# Altium footprint library QFN-44_L12.0-W12.0-P0.90-TL_AP6212.PcbLib: 1 footprints
Each footprint in its own frame and in the unit in brackets; x right, y up, seen from the top. Pads: shape width x height; smd on the part's side, far side on the other; paste and mask are expansions set on the pad; w line width, h text height; cw(c..) or ccw(c..) is an arc to the next point about the centre after c.
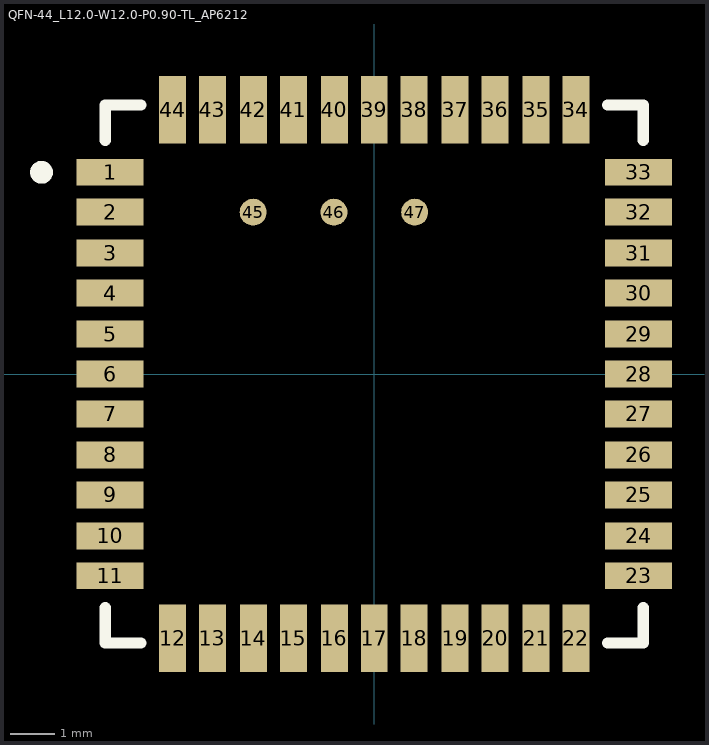
[diagram p0: the footprint, top view; thin cyan lines are the x and y axes]

## QFN-44_L12.0-W12.0-P0.90-TL_AP6212 [mm]
pads (47):
  rect 1.5x0.6 smd: 1(-5.89,4.496) 2(-5.89,3.607) 3(-5.89,2.692) 4(-5.89,1.803) 5(-5.89,0.889) 6(-5.89,0) 7(-5.89,-0.889) 8(-5.89,-1.803) 9(-5.89,-2.692) 10(-5.89,-3.607) 11(-5.89,-4.496) 23(5.89,-4.496) 24(5.89,-3.607) 25(5.89,-2.692) 26(5.89,-1.803) 27(5.89,-0.889) 28(5.89,0) 29(5.89,0.889) 30(5.89,1.803) 31(5.89,2.692) 32(5.89,3.607) 33(5.89,4.496)
  rect 0.6x1.5 smd: 12(-4.496,-5.89) 13(-3.607,-5.89) 14(-2.692,-5.89) 15(-1.803,-5.89) 16(-0.889,-5.89) 17(0,-5.89) 18(0.889,-5.89) 19(1.803,-5.89) 20(2.692,-5.89) 21(3.607,-5.89) 22(4.496,-5.89) 34(4.496,5.89) 35(3.607,5.89) 36(2.692,5.89) 37(1.803,5.89) 38(0.889,5.89) 39(0,5.89) 40(-0.889,5.89) 41(-1.803,5.89) 42(-2.692,5.89) 43(-3.607,5.89) 44(-4.496,5.89)
  round 0.6 smd: 45(-2.7,3.607) 46(-0.9,3.607) 47(0.9,3.607)
Top Overlay:
  circle w0.254: c-7.417,4.496 r0.127
  lines w0.254: -5.994,-5.207 -5.994,-5.994 -5.207,-5.994 ; -5.994,5.207 -5.994,5.994 -5.207,5.994 ; 5.207,-5.994 5.994,-5.994 5.994,-5.207 ; 5.207,5.994 5.994,5.994 5.994,5.207
3D body "AP6212.step": height 1.52, standoff 0, extent -6,-6 6,6